# Altium footprint library 1730162.PcbLib: 1 footprints
Each footprint in its own frame and in the unit in brackets; x right, y up, seen from the top. Pads: shape width x height; smd on the part's side, far side on the other; paste and mask are expansions set on the pad; w line width, h text height; cw(c..) or ccw(c..) is an arc to the next point about the centre after c.
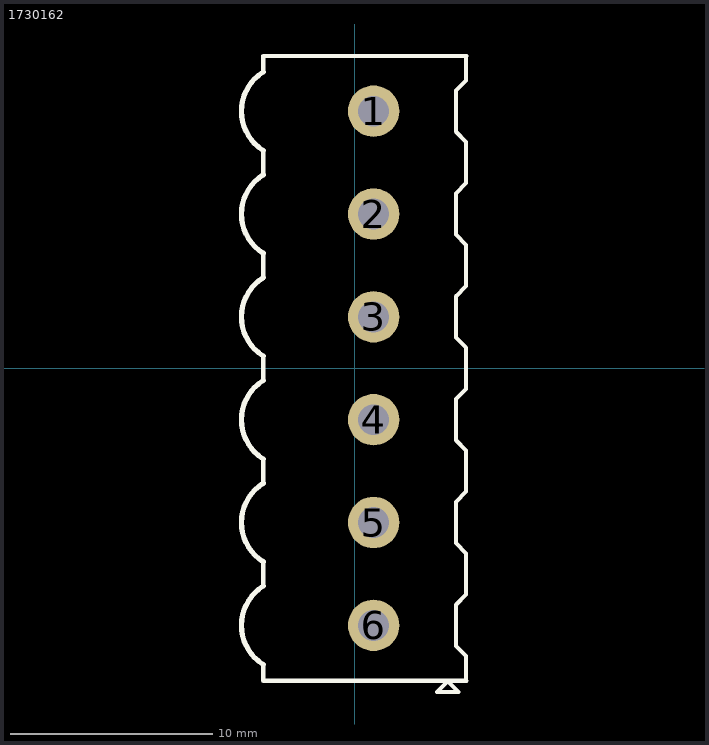
[diagram p0: the footprint, top view; thin cyan lines are the x and y axes]

## 1730162 [mil]
pads (6):
  round 100 hole 60: 1(37,500) 2(37,300) 3(37,100) 4(37,-100) 5(37,-300) 6(37,-500)
Top Overlay:
  lines w8: -177.7,-576.32 -177.7,-607.7 217.7,-607.7 ; -177.7,-423.68 -177.7,-376.32 ; -177.7,-223.68 -177.7,-176.32 ; -177.7,-23.68 -177.7,23.68 ; -177.7,176.32 -177.7,223.68 ; -177.7,376.32 -177.7,423.68 ; -177.7,576.32 -177.7,607.7 217.7,607.7 217,607 217,560 197,540 197,460 217,440 217,360 197,340 197,260 217,240 217,160 197,140 197,60 217,40 217,-40 197,-60 197,-140 217,-160 217,-240 197,-260 197,-340 217,-360 217,-440 197,-460 197,-540 217,-560 217,-607 ; 160,-630 180,-610 180,-607.7 202.3,-630 160,-630
  lines w10: -177.7,-576.32 cw(c-130,-500) -177.7,-423.68 ; -177.7,-376.32 cw(c-130,-300) -177.7,-223.68 ; -177.7,-176.32 cw(c-130,-100) -177.7,-23.68 ; -177.7,23.68 cw(c-130,100) -177.7,176.32 ; -177.7,223.68 cw(c-130,300) -177.7,376.32 ; -177.7,423.68 cw(c-130,500) -177.7,576.32
3D body: height 548.31, standoff -132.8, extent -220,-629.59 218.98,599.59